# Altium integrated library TI Data Converters Digital to Analog Converter.IntLib: 1533 symbols (part 43 of 99)
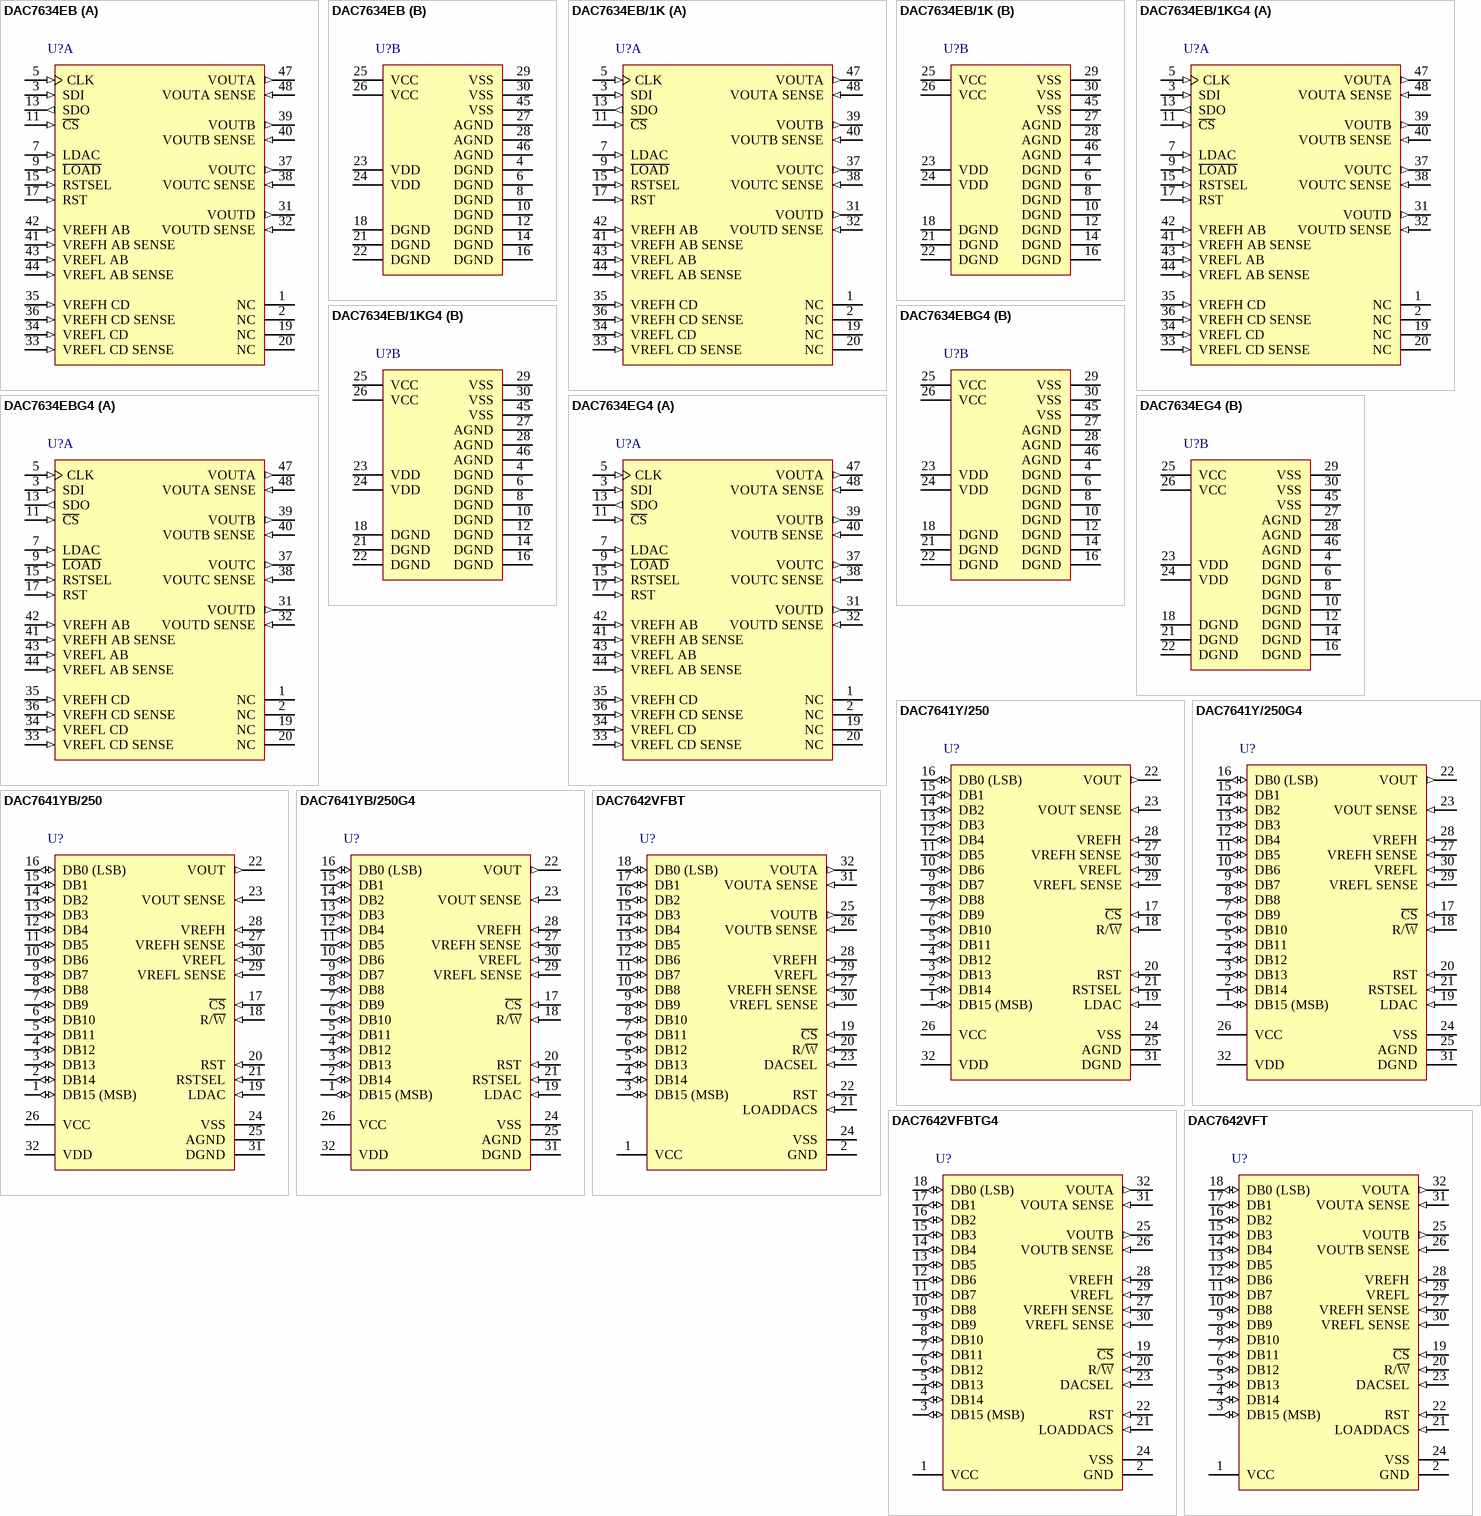
[diagram p115: symbols DAC7634EB to DAC7642VFT]

## DAC7634EB/1K
designator U?
16-Bit, Quad Voltage Output DAC, -40 to 85 degC, 48-pin SOP (DL48), Green (RoHS & no Sb/Br); Manufacturer: Texas Instruments; PartNumber: DAC7634EB/1K; DAC Channels: 4; DNL(Max)(+/-LSB): 2; INL(Max)(+/-LSB): 3; Interface: Serial SPI; Power Consumption(Typ)(mW): 15; Resolution(Bits): 16; Settling Time(us): 10; SubFamily: Precision DAC (=<10MSPS); DatasheetVersion: SBAS134B; PackageVersion: 4040048/E, 12/2001; PackageReference: DL48; PackageDescription: 48-Pin Plastic Small Outline, Body 7.49 x 15.88 mm, Pitch 0.635 mm; Supplier 1: Digi-Key; Supplier Part Number 1: DAC7634EB/1K-ND; Supplier 2: Newark; Supplier Part Number 2: 74C9222; Supplier 3: Mouser; Supplier Part Number 3: 595-DAC7634EB/1K; Eco-Plan: Green (RoHS & no Sb/Br); Mounting Technology: Surface Mount; Code_JEDEC: MO-118; ComponentLink1Description: Manufacturer URL; ComponentLink1URL: http://www.ti.com/; ComponentLink2Description: Datasheet; ComponentLink2URL: http://www.ti.com/general/docs/lit/getliterature.tsp?genericPartNumber=DAC7634&fileType=pdf; ComponentLink3Description: Package Specification; ComponentLink3URL: http://www.ti.com/lit/ml/msso001c/msso001c.pdf
footprint TI-DL48_N (SOP, 48-Leads, Body 15.88x7.49mm, Pitch 0.635mm, IPC Medium Density)
footprint TI-DL48_L (SOP, 48-Leads, Body 15.88x7.49mm, Pitch 0.635mm, IPC High Density)
footprint TI-DL48_M (SOP, 48-Leads, Body 15.88x7.49mm, Pitch 0.635mm, IPC Low Density)
part A pins: 1 NC "No connection", 2 NC "No connection", 3 SDI (in) "Serial data input", 5 CLK (in) "Data clock input", 7 LDAC (in) "DAC register load control, rising edge triggered", 9 ~{LOAD} (in) "DAC input register load control, active low", 11 ~{CS} (in) "Chip select, active low", 13 SDO (out) "Serial data output", 15 RSTSEL (in) "Reset Select. Determines the action of RST. If  HIGH, a RST common sets the DAC registers to mid-scale (8000 H). If LOW, a RST command sets the DAC registers to zero (0000H).", 17 RST (in) "Reset, rising edge triggered. Depending on the state of RSTSEL, the DAC registers are set to either mid-scale or zero.", 19 NC "No connection", 20 NC "No connection", 31 VOUTD (out) "DAC D output voltage", 32 VOUTD SENSE (in) "DAC D's output amplifier inverting input. Used to close feedback loop at load.", 33 VREFL CD SENSE (in) "DAC C and D reference low sense input", 34 VREFL CD (in) "DAC C and D reference low input", 35 VREFH CD (in) "DAC C and D reference high input", 36 VREFH CD SENSE (in) "DAC C and D reference high sense input", 37 VOUTC (out) "DAC C output voltage", 38 VOUTC SENSE (in) "DAC C's output amplifier inverting input. Used to close the feedback loop at the load.", 39 VOUTB (out) "DAC B output voltage", 40 VOUTB SENSE (in) "DAC B's output amplifier inverting input. Used to close the feedback loop at the load.", 41 VREFH AB SENSE (in) "DAC A and B reference high sense input", 42 VREFH AB (in) "DAC A and B reference high input", 43 VREFL AB (in) "DAC A and B reference low input", 44 VREFL AB SENSE (in) "DAC A and B reference low sense input", 47 VOUTA (out) "DAC A output voltage", 48 VOUTA SENSE (in) "DAC A's output amplifier inverting input. Used to close the feedback loop at the load."
part B pins: 4 DGND (power) "Digital ground", 6 DGND (power) "Digital ground", 8 DGND (power) "Digital ground", 10 DGND (power) "Digital ground", 12 DGND (power) "Digital ground", 14 DGND (power) "Digital ground", 16 DGND (power) "Digital ground", 18 DGND (power) "Digital ground", 21 DGND (power) "Digital ground", 22 DGND (power) "Digital ground", 23 VDD (power) "Digital 5-V power supply", 24 VDD (power) "Digital 5-V power supply", 25 VCC (power) "Analog +5-V power supply", 26 VCC (power) "Analog +5-V power supply", 27 AGND (power) "Analog ground", 28 AGND (power) "Analog ground", 29 VSS (power) "Analog +5V power supply or 0V single supply", 30 VSS (power) "Analog +5V power supply or 0V single supply", 45 VSS (power) "Analog -5V power supply or 0V single supply", 46 AGND (power) "Analog ground"

## DAC7634EB/1KG4
designator U?
16-Bit, Quad Voltage Output DAC, -40 to 85 degC, 48-pin SOP (DL48), Green (RoHS & no Sb/Br); Manufacturer: Texas Instruments; PartNumber: DAC7634EB/1KG4; DAC Channels: 4; DNL(Max)(+/-LSB): 2; INL(Max)(+/-LSB): 3; Interface: Serial SPI; Power Consumption(Typ)(mW): 15; Resolution(Bits): 16; Settling Time(us): 10; SubFamily: Precision DAC (=<10MSPS); DatasheetVersion: SBAS134B; PackageVersion: 4040048/E, 12/2001; PackageReference: DL48; PackageDescription: 48-Pin Plastic Small Outline, Body 7.49 x 15.88 mm, Pitch 0.635 mm; Supplier 1: Digi-Key; Supplier Part Number 1: DAC7634EB/1KG4-ND; Supplier 2: Mouser; Supplier Part Number 2: 595-DAC7634EB/1KG4; Eco-Plan: Green (RoHS & no Sb/Br); Mounting Technology: Surface Mount; Code_JEDEC: MO-118; ComponentLink1Description: Manufacturer URL; ComponentLink1URL: http://www.ti.com/; ComponentLink2Description: Datasheet; ComponentLink2URL: http://www.ti.com/general/docs/lit/getliterature.tsp?genericPartNumber=DAC7634&fileType=pdf; ComponentLink3Description: Package Specification; ComponentLink3URL: http://www.ti.com/lit/ml/msso001c/msso001c.pdf
footprint TI-DL48_N (SOP, 48-Leads, Body 15.88x7.49mm, Pitch 0.635mm, IPC Medium Density)
footprint TI-DL48_L (SOP, 48-Leads, Body 15.88x7.49mm, Pitch 0.635mm, IPC High Density)
footprint TI-DL48_M (SOP, 48-Leads, Body 15.88x7.49mm, Pitch 0.635mm, IPC Low Density)
part A pins: 1 NC "No connection", 2 NC "No connection", 3 SDI (in) "Serial data input", 5 CLK (in) "Data clock input", 7 LDAC (in) "DAC register load control, rising edge triggered", 9 ~{LOAD} (in) "DAC input register load control, active low", 11 ~{CS} (in) "Chip select, active low", 13 SDO (out) "Serial data output", 15 RSTSEL (in) "Reset Select. Determines the action of RST. If  HIGH, a RST common sets the DAC registers to mid-scale (8000 H). If LOW, a RST command sets the DAC registers to zero (0000H).", 17 RST (in) "Reset, rising edge triggered. Depending on the state of RSTSEL, the DAC registers are set to either mid-scale or zero.", 19 NC "No connection", 20 NC "No connection", 31 VOUTD (out) "DAC D output voltage", 32 VOUTD SENSE (in) "DAC D's output amplifier inverting input. Used to close feedback loop at load.", 33 VREFL CD SENSE (in) "DAC C and D reference low sense input", 34 VREFL CD (in) "DAC C and D reference low input", 35 VREFH CD (in) "DAC C and D reference high input", 36 VREFH CD SENSE (in) "DAC C and D reference high sense input", 37 VOUTC (out) "DAC C output voltage", 38 VOUTC SENSE (in) "DAC C's output amplifier inverting input. Used to close the feedback loop at the load.", 39 VOUTB (out) "DAC B output voltage", 40 VOUTB SENSE (in) "DAC B's output amplifier inverting input. Used to close the feedback loop at the load.", 41 VREFH AB SENSE (in) "DAC A and B reference high sense input", 42 VREFH AB (in) "DAC A and B reference high input", 43 VREFL AB (in) "DAC A and B reference low input", 44 VREFL AB SENSE (in) "DAC A and B reference low sense input", 47 VOUTA (out) "DAC A output voltage", 48 VOUTA SENSE (in) "DAC A's output amplifier inverting input. Used to close the feedback loop at the load."
part B pins: 4 DGND (power) "Digital ground", 6 DGND (power) "Digital ground", 8 DGND (power) "Digital ground", 10 DGND (power) "Digital ground", 12 DGND (power) "Digital ground", 14 DGND (power) "Digital ground", 16 DGND (power) "Digital ground", 18 DGND (power) "Digital ground", 21 DGND (power) "Digital ground", 22 DGND (power) "Digital ground", 23 VDD (power) "Digital 5-V power supply", 24 VDD (power) "Digital 5-V power supply", 25 VCC (power) "Analog +5-V power supply", 26 VCC (power) "Analog +5-V power supply", 27 AGND (power) "Analog ground", 28 AGND (power) "Analog ground", 29 VSS (power) "Analog +5V power supply or 0V single supply", 30 VSS (power) "Analog +5V power supply or 0V single supply", 45 VSS (power) "Analog -5V power supply or 0V single supply", 46 AGND (power) "Analog ground"

## DAC7634EBG4
designator U?
16-Bit, Quad Voltage Output DAC, -40 to 85 degC, 48-pin SOP (DL48), Green (RoHS & no Sb/Br); Manufacturer: Texas Instruments; PartNumber: DAC7634EBG4; DAC Channels: 4; DNL(Max)(+/-LSB): 2; INL(Max)(+/-LSB): 3; Interface: Serial SPI; Power Consumption(Typ)(mW): 15; Resolution(Bits): 16; Settling Time(us): 10; SubFamily: Precision DAC (=<10MSPS); DatasheetVersion: SBAS134B; PackageVersion: 4040048/E, 12/2001; PackageReference: DL48; PackageDescription: 48-Pin Plastic Small Outline, Body 7.49 x 15.88 mm, Pitch 0.635 mm; Supplier 1: Digi-Key; Supplier Part Number 1: DAC7634EBG4-ND; Supplier 2: Mouser; Supplier Part Number 2: 595-DAC7634EBG4; Eco-Plan: Green (RoHS & no Sb/Br); Mounting Technology: Surface Mount; Code_JEDEC: MO-118; ComponentLink1Description: Manufacturer URL; ComponentLink1URL: http://www.ti.com/; ComponentLink2Description: Datasheet; ComponentLink2URL: http://www.ti.com/general/docs/lit/getliterature.tsp?genericPartNumber=DAC7634&fileType=pdf; ComponentLink3Description: Package Specification; ComponentLink3URL: http://www.ti.com/lit/ml/msso001c/msso001c.pdf
footprint TI-DL48_N (SOP, 48-Leads, Body 15.88x7.49mm, Pitch 0.635mm, IPC Medium Density)
footprint TI-DL48_L (SOP, 48-Leads, Body 15.88x7.49mm, Pitch 0.635mm, IPC High Density)
footprint TI-DL48_M (SOP, 48-Leads, Body 15.88x7.49mm, Pitch 0.635mm, IPC Low Density)
part A pins: 1 NC "No connection", 2 NC "No connection", 3 SDI (in) "Serial data input", 5 CLK (in) "Data clock input", 7 LDAC (in) "DAC register load control, rising edge triggered", 9 ~{LOAD} (in) "DAC input register load control, active low", 11 ~{CS} (in) "Chip select, active low", 13 SDO (out) "Serial data output", 15 RSTSEL (in) "Reset Select. Determines the action of RST. If  HIGH, a RST common sets the DAC registers to mid-scale (8000 H). If LOW, a RST command sets the DAC registers to zero (0000H).", 17 RST (in) "Reset, rising edge triggered. Depending on the state of RSTSEL, the DAC registers are set to either mid-scale or zero.", 19 NC "No connection", 20 NC "No connection", 31 VOUTD (out) "DAC D output voltage", 32 VOUTD SENSE (in) "DAC D's output amplifier inverting input. Used to close feedback loop at load.", 33 VREFL CD SENSE (in) "DAC C and D reference low sense input", 34 VREFL CD (in) "DAC C and D reference low input", 35 VREFH CD (in) "DAC C and D reference high input", 36 VREFH CD SENSE (in) "DAC C and D reference high sense input", 37 VOUTC (out) "DAC C output voltage", 38 VOUTC SENSE (in) "DAC C's output amplifier inverting input. Used to close the feedback loop at the load.", 39 VOUTB (out) "DAC B output voltage", 40 VOUTB SENSE (in) "DAC B's output amplifier inverting input. Used to close the feedback loop at the load.", 41 VREFH AB SENSE (in) "DAC A and B reference high sense input", 42 VREFH AB (in) "DAC A and B reference high input", 43 VREFL AB (in) "DAC A and B reference low input", 44 VREFL AB SENSE (in) "DAC A and B reference low sense input", 47 VOUTA (out) "DAC A output voltage", 48 VOUTA SENSE (in) "DAC A's output amplifier inverting input. Used to close the feedback loop at the load."
part B pins: 4 DGND (power) "Digital ground", 6 DGND (power) "Digital ground", 8 DGND (power) "Digital ground", 10 DGND (power) "Digital ground", 12 DGND (power) "Digital ground", 14 DGND (power) "Digital ground", 16 DGND (power) "Digital ground", 18 DGND (power) "Digital ground", 21 DGND (power) "Digital ground", 22 DGND (power) "Digital ground", 23 VDD (power) "Digital 5-V power supply", 24 VDD (power) "Digital 5-V power supply", 25 VCC (power) "Analog +5-V power supply", 26 VCC (power) "Analog +5-V power supply", 27 AGND (power) "Analog ground", 28 AGND (power) "Analog ground", 29 VSS (power) "Analog +5V power supply or 0V single supply", 30 VSS (power) "Analog +5V power supply or 0V single supply", 45 VSS (power) "Analog -5V power supply or 0V single supply", 46 AGND (power) "Analog ground"

## DAC7634EG4
designator U?
16-Bit, Quad Voltage Output DAC, -40 to 85 degC, 48-pin SOP (DL48), Green (RoHS & no Sb/Br); Manufacturer: Texas Instruments; PartNumber: DAC7634EG4; DAC Channels: 4; DNL(Max)(+/-LSB): 3; Interface: Serial SPI; Power Consumption(Typ)(mW): 15; Resolution(Bits): 16; Settling Time(us): 10; SubFamily: Precision DAC (=<10MSPS); DatasheetVersion: SBAS134B; PackageVersion: 4040048/E, 12/2001; PackageReference: DL48; PackageDescription: 48-Pin Plastic Small Outline, Body 7.49 x 15.88 mm, Pitch 0.635 mm; Supplier 1: Digi-Key; Supplier Part Number 1: DAC7634EG4-ND; Supplier 2: Mouser; Supplier Part Number 2: 595-DAC7634EG4; Eco-Plan: Green (RoHS & no Sb/Br); INL(Max)(+/-LSB): 4; Mounting Technology: Surface Mount; Code_JEDEC: MO-118; ComponentLink1Description: Manufacturer URL; ComponentLink1URL: http://www.ti.com/; ComponentLink2Description: Datasheet; ComponentLink2URL: http://www.ti.com/general/docs/lit/getliterature.tsp?genericPartNumber=DAC7634&fileType=pdf; ComponentLink3Description: Package Specification; ComponentLink3URL: http://www.ti.com/lit/ml/msso001c/msso001c.pdf
footprint TI-DL48_N (SOP, 48-Leads, Body 15.88x7.49mm, Pitch 0.635mm, IPC Medium Density)
footprint TI-DL48_L (SOP, 48-Leads, Body 15.88x7.49mm, Pitch 0.635mm, IPC High Density)
footprint TI-DL48_M (SOP, 48-Leads, Body 15.88x7.49mm, Pitch 0.635mm, IPC Low Density)
part A pins: 1 NC "No connection", 2 NC "No connection", 3 SDI (in) "Serial data input", 5 CLK (in) "Data clock input", 7 LDAC (in) "DAC register load control, rising edge triggered", 9 ~{LOAD} (in) "DAC input register load control, active low", 11 ~{CS} (in) "Chip select, active low", 13 SDO (out) "Serial data output", 15 RSTSEL (in) "Reset Select. Determines the action of RST. If  HIGH, a RST common sets the DAC registers to mid-scale (8000 H). If LOW, a RST command sets the DAC registers to zero (0000H).", 17 RST (in) "Reset, rising edge triggered. Depending on the state of RSTSEL, the DAC registers are set to either mid-scale or zero.", 19 NC "No connection", 20 NC "No connection", 31 VOUTD (out) "DAC D output voltage", 32 VOUTD SENSE (in) "DAC D's output amplifier inverting input. Used to close feedback loop at load.", 33 VREFL CD SENSE (in) "DAC C and D reference low sense input", 34 VREFL CD (in) "DAC C and D reference low input", 35 VREFH CD (in) "DAC C and D reference high input", 36 VREFH CD SENSE (in) "DAC C and D reference high sense input", 37 VOUTC (out) "DAC C output voltage", 38 VOUTC SENSE (in) "DAC C's output amplifier inverting input. Used to close the feedback loop at the load.", 39 VOUTB (out) "DAC B output voltage", 40 VOUTB SENSE (in) "DAC B's output amplifier inverting input. Used to close the feedback loop at the load.", 41 VREFH AB SENSE (in) "DAC A and B reference high sense input", 42 VREFH AB (in) "DAC A and B reference high input", 43 VREFL AB (in) "DAC A and B reference low input", 44 VREFL AB SENSE (in) "DAC A and B reference low sense input", 47 VOUTA (out) "DAC A output voltage", 48 VOUTA SENSE (in) "DAC A's output amplifier inverting input. Used to close the feedback loop at the load."
part B pins: 4 DGND (power) "Digital ground", 6 DGND (power) "Digital ground", 8 DGND (power) "Digital ground", 10 DGND (power) "Digital ground", 12 DGND (power) "Digital ground", 14 DGND (power) "Digital ground", 16 DGND (power) "Digital ground", 18 DGND (power) "Digital ground", 21 DGND (power) "Digital ground", 22 DGND (power) "Digital ground", 23 VDD (power) "Digital 5-V power supply", 24 VDD (power) "Digital 5-V power supply", 25 VCC (power) "Analog +5-V power supply", 26 VCC (power) "Analog +5-V power supply", 27 AGND (power) "Analog ground", 28 AGND (power) "Analog ground", 29 VSS (power) "Analog +5V power supply or 0V single supply", 30 VSS (power) "Analog +5V power supply or 0V single supply", 45 VSS (power) "Analog -5V power supply or 0V single supply", 46 AGND (power) "Analog ground"

## DAC7641Y/250
designator U?
16-Bit, Voltage Output DAC, -40 to 85 degC, 32-pin QFP (PBS32), Green (RoHS & no Sb/Br); Manufacturer: Texas Instruments; PartNumber: DAC7641Y/250; DAC Channels: 1; DNL(Max)(+/-LSB): 3; INL(Max)(+/-LSB): 4; Interface: Parallel; Power Consumption(Typ)(mW): 1.8; Resolution(Bits): 16; Settling Time(us): 10; SubFamily: Precision DAC (=<10MSPS); DatasheetVersion: SBAS118; PackageVersion: 4087735/B, 07/2005; PackageReference: PBS32; PackageDescription: 32-Pin Plastic Flat Pack, Body 5 X 5 mm, Pitch 0.5 mm; Supplier 1: Digi-Key; Supplier Part Number 1: DAC7641YTR-ND; Supplier 2: Digi-Key; Supplier Part Number 2: DAC7641YCT-ND; Supplier 3: Digi-Key; Supplier Part Number 3: DAC7641YDKR-ND; Supplier 4: Mouser; Supplier Part Number 4: 595-DAC7641Y/250; Eco-Plan: Green (RoHS & no Sb/Br); Mounting Technology: Surface Mount; Code_JEDEC: MS-026; ComponentLink1Description: Manufacturer URL; ComponentLink1URL: http://www.ti.com/; ComponentLink2Description: Datasheet; ComponentLink2URL: http://www.ti.com/general/docs/lit/getliterature.tsp?genericPartNumber=DAC7641&fileType=pdf; ComponentLink3Description: Package Specification; ComponentLink3URL: http://www.ti.com/lit/ml/mpqf027a/mpqf027a.pdf
footprint TI-PBS32_N (QFP, 32-Leads, Body 5x5mm, Pitch 0.5mm, IPC Medium Density)
footprint TI-PBS32_L (QFP, 32-Leads, Body 5x5mm, Pitch 0.5mm, IPC High Density)
footprint TI-PBS32_M (QFP, 32-Leads, Body 5x5mm, Pitch 0.5mm, IPC Low Density)
pins: 1 DB15 (MSB) (io) "Data Bit 15, MSB", 2 DB14 (io) "Data Bit 14", 3 DB13 (io) "Data Bit 13", 4 DB12 (io) "Data Bit 12", 5 DB11 (io) "Data Bit 11", 6 DB10 (io) "Data Bit 10", 7 DB9 (io) "Data Bit 9", 8 DB8 (io) "Data Bit 8", 9 DB7 (io) "Data Bit 7", 10 DB6 (io) "Data Bit 6", 11 DB5 (io) "Data Bit 5", 12 DB4 (io) "Data Bit 4", 13 DB3 (io) "Data Bit 3", 14 DB2 (io) "Data Bit 2", 15 DB1 (io) "Data Bit 1", 16 DB0 (LSB) (io) "Data Bit 0, LSB", 17 ~{CS} (in) "Chip Select, active low", 18 R/~{W} (in) "Enabled by C\S\, controls data read and write from the input register.", 19 LDAC (in) "DAC Load Strobe, rising-edge triggered.", 20 RST (in) "Reset, rising-edge triggered. Depending on the state of RSTSEL, the DAC registers are set to either midscale or zero.", 21 RSTSEL (in) "Reset Select. Determines the action of RST. If HIGH, a RST command will set the DAC registers to mid-scale. If LOW, a RST command will set the DAC registers to zero.", 22 VOUT (out) "DAC Voltage Output", 23 VOUT SENSE (in) "DAC Output Amplifier Inverting Input. Used to close the feedback loop at the load.", 24 VSS (power) "Negative Power Supply", 25 AGND (power) "Analog Ground", 26 VCC (power) "Positive Power Supply", 27 VREFH SENSE (in) "DAC Reference High Sense Input", 28 VREFH (in) "DAC Reference High Input", 29 VREFL SENSE (in) "DAC Reference Low Sense Input", 30 VREFL (in) "DAC Reference Low Input", 31 DGND (power) "Digital Ground", 32 VDD (power) "Positive Power Supply"

## DAC7641Y/250G4
designator U?
16-Bit, Voltage Output DAC, -40 to 85 degC, 32-pin QFP (PBS32), Green (RoHS & no Sb/Br); Manufacturer: Texas Instruments; PartNumber: DAC7641Y/250G4; DAC Channels: 1; DNL(Max)(+/-LSB): 3; INL(Max)(+/-LSB): 4; Interface: Parallel; Power Consumption(Typ)(mW): 1.8; Resolution(Bits): 16; Settling Time(us): 10; SubFamily: Precision DAC (=<10MSPS); DatasheetVersion: SBAS118; PackageVersion: 4087735/B, 07/2005; PackageReference: PBS32; PackageDescription: 32-Pin Plastic Flat Pack, Body 5 X 5 mm, Pitch 0.5 mm; Supplier 1: Digi-Key; Supplier Part Number 1: DAC7641Y/250G4-ND; Supplier 2: Mouser; Supplier Part Number 2: 595-DAC7641Y/250G4; Eco-Plan: Green (RoHS & no Sb/Br); Mounting Technology: Surface Mount; Code_JEDEC: MS-026; ComponentLink1Description: Manufacturer URL; ComponentLink1URL: http://www.ti.com/; ComponentLink2Description: Datasheet; ComponentLink2URL: http://www.ti.com/general/docs/lit/getliterature.tsp?genericPartNumber=DAC7641&fileType=pdf; ComponentLink3Description: Package Specification; ComponentLink3URL: http://www.ti.com/lit/ml/mpqf027a/mpqf027a.pdf
footprint TI-PBS32_N (QFP, 32-Leads, Body 5x5mm, Pitch 0.5mm, IPC Medium Density)
footprint TI-PBS32_L (QFP, 32-Leads, Body 5x5mm, Pitch 0.5mm, IPC High Density)
footprint TI-PBS32_M (QFP, 32-Leads, Body 5x5mm, Pitch 0.5mm, IPC Low Density)
pins: 1 DB15 (MSB) (io) "Data Bit 15, MSB", 2 DB14 (io) "Data Bit 14", 3 DB13 (io) "Data Bit 13", 4 DB12 (io) "Data Bit 12", 5 DB11 (io) "Data Bit 11", 6 DB10 (io) "Data Bit 10", 7 DB9 (io) "Data Bit 9", 8 DB8 (io) "Data Bit 8", 9 DB7 (io) "Data Bit 7", 10 DB6 (io) "Data Bit 6", 11 DB5 (io) "Data Bit 5", 12 DB4 (io) "Data Bit 4", 13 DB3 (io) "Data Bit 3", 14 DB2 (io) "Data Bit 2", 15 DB1 (io) "Data Bit 1", 16 DB0 (LSB) (io) "Data Bit 0, LSB", 17 ~{CS} (in) "Chip Select, active low", 18 R/~{W} (in) "Enabled by C\S\, controls data read and write from the input register.", 19 LDAC (in) "DAC Load Strobe, rising-edge triggered.", 20 RST (in) "Reset, rising-edge triggered. Depending on the state of RSTSEL, the DAC registers are set to either midscale or zero.", 21 RSTSEL (in) "Reset Select. Determines the action of RST. If HIGH, a RST command will set the DAC registers to mid-scale. If LOW, a RST command will set the DAC registers to zero.", 22 VOUT (out) "DAC Voltage Output", 23 VOUT SENSE (in) "DAC Output Amplifier Inverting Input. Used to close the feedback loop at the load.", 24 VSS (power) "Negative Power Supply", 25 AGND (power) "Analog Ground", 26 VCC (power) "Positive Power Supply", 27 VREFH SENSE (in) "DAC Reference High Sense Input", 28 VREFH (in) "DAC Reference High Input", 29 VREFL SENSE (in) "DAC Reference Low Sense Input", 30 VREFL (in) "DAC Reference Low Input", 31 DGND (power) "Digital Ground", 32 VDD (power) "Positive Power Supply"

## DAC7641YB/250
designator U?
16-Bit, Voltage Output DAC, -40 to 85 degC, 32-pin QFP (PBS32), Green (RoHS & no Sb/Br); Manufacturer: Texas Instruments; PartNumber: DAC7641YB/250; DAC Channels: 1; DNL(Max)(+/-LSB): 2; INL(Max)(+/-LSB): 3; Interface: Parallel; Power Consumption(Typ)(mW): 1.8; Resolution(Bits): 16; Settling Time(us): 10; SubFamily: Precision DAC (=<10MSPS); DatasheetVersion: SBAS118; PackageVersion: 4087735/B, 07/2005; PackageReference: PBS32; PackageDescription: 32-Pin Plastic Flat Pack, Body 5 X 5 mm, Pitch 0.5 mm; Supplier 1: Digi-Key; Supplier Part Number 1: DAC7641YBTR-ND; Supplier 2: Digi-Key; Supplier Part Number 2: DAC7641YBCT-ND; Supplier 3: Digi-Key; Supplier Part Number 3: DAC7641YBDKR-ND; Supplier 4: Mouser; Supplier Part Number 4: 595-DAC7641YB/250; Eco-Plan: Green (RoHS & no Sb/Br); Mounting Technology: Surface Mount; Code_JEDEC: MS-026; ComponentLink1Description: Manufacturer URL; ComponentLink1URL: http://www.ti.com/; ComponentLink2Description: Datasheet; ComponentLink2URL: http://www.ti.com/general/docs/lit/getliterature.tsp?genericPartNumber=DAC7641&fileType=pdf; ComponentLink3Description: Package Specification; ComponentLink3URL: http://www.ti.com/lit/ml/mpqf027a/mpqf027a.pdf
footprint TI-PBS32_N (QFP, 32-Leads, Body 5x5mm, Pitch 0.5mm, IPC Medium Density)
footprint TI-PBS32_L (QFP, 32-Leads, Body 5x5mm, Pitch 0.5mm, IPC High Density)
footprint TI-PBS32_M (QFP, 32-Leads, Body 5x5mm, Pitch 0.5mm, IPC Low Density)
pins: 1 DB15 (MSB) (io) "Data Bit 15, MSB", 2 DB14 (io) "Data Bit 14", 3 DB13 (io) "Data Bit 13", 4 DB12 (io) "Data Bit 12", 5 DB11 (io) "Data Bit 11", 6 DB10 (io) "Data Bit 10", 7 DB9 (io) "Data Bit 9", 8 DB8 (io) "Data Bit 8", 9 DB7 (io) "Data Bit 7", 10 DB6 (io) "Data Bit 6", 11 DB5 (io) "Data Bit 5", 12 DB4 (io) "Data Bit 4", 13 DB3 (io) "Data Bit 3", 14 DB2 (io) "Data Bit 2", 15 DB1 (io) "Data Bit 1", 16 DB0 (LSB) (io) "Data Bit 0, LSB", 17 ~{CS} (in) "Chip Select, active low", 18 R/~{W} (in) "Enabled by C\S\, controls data read and write from the input register.", 19 LDAC (in) "DAC Load Strobe, rising-edge triggered.", 20 RST (in) "Reset, rising-edge triggered. Depending on the state of RSTSEL, the DAC registers are set to either midscale or zero.", 21 RSTSEL (in) "Reset Select. Determines the action of RST. If HIGH, a RST command will set the DAC registers to mid-scale. If LOW, a RST command will set the DAC registers to zero.", 22 VOUT (out) "DAC Voltage Output", 23 VOUT SENSE (in) "DAC Output Amplifier Inverting Input. Used to close the feedback loop at the load.", 24 VSS (power) "Negative Power Supply", 25 AGND (power) "Analog Ground", 26 VCC (power) "Positive Power Supply", 27 VREFH SENSE (in) "DAC Reference High Sense Input", 28 VREFH (in) "DAC Reference High Input", 29 VREFL SENSE (in) "DAC Reference Low Sense Input", 30 VREFL (in) "DAC Reference Low Input", 31 DGND (power) "Digital Ground", 32 VDD (power) "Positive Power Supply"

## DAC7641YB/250G4
designator U?
16-Bit, Voltage Output DAC, -40 to 85 degC, 32-pin QFP (PBS32), Green (RoHS & no Sb/Br); Manufacturer: Texas Instruments; PartNumber: DAC7641YB/250G4; DAC Channels: 1; DNL(Max)(+/-LSB): 2; INL(Max)(+/-LSB): 3; Interface: Parallel; Power Consumption(Typ)(mW): 1.8; Resolution(Bits): 16; Settling Time(us): 10; SubFamily: Precision DAC (=<10MSPS); DatasheetVersion: SBAS118; PackageVersion: 4087735/B, 07/2005; PackageReference: PBS32; PackageDescription: 32-Pin Plastic Flat Pack, Body 5 X 5 mm, Pitch 0.5 mm; Supplier 1: Digi-Key; Supplier Part Number 1: DAC7641YB/250G4-ND; Supplier 2: Mouser; Supplier Part Number 2: 595-DAC7641YB/250G4; Eco-Plan: Green (RoHS & no Sb/Br); Mounting Technology: Surface Mount; Code_JEDEC: MS-026; ComponentLink1Description: Manufacturer URL; ComponentLink1URL: http://www.ti.com/; ComponentLink2Description: Datasheet; ComponentLink2URL: http://www.ti.com/general/docs/lit/getliterature.tsp?genericPartNumber=DAC7641&fileType=pdf; ComponentLink3Description: Package Specification; ComponentLink3URL: http://www.ti.com/lit/ml/mpqf027a/mpqf027a.pdf
footprint TI-PBS32_N (QFP, 32-Leads, Body 5x5mm, Pitch 0.5mm, IPC Medium Density)
footprint TI-PBS32_L (QFP, 32-Leads, Body 5x5mm, Pitch 0.5mm, IPC High Density)
footprint TI-PBS32_M (QFP, 32-Leads, Body 5x5mm, Pitch 0.5mm, IPC Low Density)
pins: 1 DB15 (MSB) (io) "Data Bit 15, MSB", 2 DB14 (io) "Data Bit 14", 3 DB13 (io) "Data Bit 13", 4 DB12 (io) "Data Bit 12", 5 DB11 (io) "Data Bit 11", 6 DB10 (io) "Data Bit 10", 7 DB9 (io) "Data Bit 9", 8 DB8 (io) "Data Bit 8", 9 DB7 (io) "Data Bit 7", 10 DB6 (io) "Data Bit 6", 11 DB5 (io) "Data Bit 5", 12 DB4 (io) "Data Bit 4", 13 DB3 (io) "Data Bit 3", 14 DB2 (io) "Data Bit 2", 15 DB1 (io) "Data Bit 1", 16 DB0 (LSB) (io) "Data Bit 0, LSB", 17 ~{CS} (in) "Chip Select, active low", 18 R/~{W} (in) "Enabled by C\S\, controls data read and write from the input register.", 19 LDAC (in) "DAC Load Strobe, rising-edge triggered.", 20 RST (in) "Reset, rising-edge triggered. Depending on the state of RSTSEL, the DAC registers are set to either midscale or zero.", 21 RSTSEL (in) "Reset Select. Determines the action of RST. If HIGH, a RST command will set the DAC registers to mid-scale. If LOW, a RST command will set the DAC registers to zero.", 22 VOUT (out) "DAC Voltage Output", 23 VOUT SENSE (in) "DAC Output Amplifier Inverting Input. Used to close the feedback loop at the load.", 24 VSS (power) "Negative Power Supply", 25 AGND (power) "Analog Ground", 26 VCC (power) "Positive Power Supply", 27 VREFH SENSE (in) "DAC Reference High Sense Input", 28 VREFH (in) "DAC Reference High Input", 29 VREFL SENSE (in) "DAC Reference Low Sense Input", 30 VREFL (in) "DAC Reference Low Input", 31 DGND (power) "Digital Ground", 32 VDD (power) "Positive Power Supply"

## DAC7642VFBT
designator U?
16-Bit, Dual Voltage Output DAC with Parallel Interface and Reset to Mid-Scale, -40 to 85 degC, 32-pin QFP (VF32), Green (RoHS & no Sb/Br); Manufacturer: Texas Instruments; PartNumber: DAC7642VFBT; DAC Channels: 2; INL(Max)(+/-LSB): 3; Power Consumption(Typ)(mW): 2.5; Resolution(Bits): 16; Settling Time(us): 10; SubFamily: Precision DAC (=<10MSPS); DatasheetVersion: SBAS233; PackageReference: VF32; PackageDescription: 32-Pin Plastic Quad Flatpack, Body 7 x 7 mm, Pitch 0.8 mm; Supplier 1: Digi-Key; Supplier Part Number 1: DAC7642VFBT-ND; Supplier 2: Mouser; Supplier Part Number 2: 595-DAC7642VFBT; DNL(Max)(+/-LSB): 2; Eco-Plan: Green (RoHS & no Sb/Br); Interface: Parallel; Mounting Technology: Surface Mount; ComponentLink1Description: Manufacturer URL; ComponentLink1URL: http://www.ti.com/; ComponentLink2Description: Datasheet; ComponentLink2URL: http://www.ti.com/general/docs/lit/getliterature.tsp?genericPartNumber=DAC7642&fileType=pdf; ComponentLink3Description: Package Specification; ComponentLink3URL: http://www.ti.com/litv/pdf/mtqf002b
footprint TI-VF32_N (QFP, 32-Leads, Body 7x7mm, Pitch 0.8mm, IPC Medium Density)
footprint TI-VF32_L (QFP, 32-Leads, Body 7x7mm, Pitch 0.8mm, IPC High Density)
footprint TI-VF32_M (QFP, 32-Leads, Body 7x7mm, Pitch 0.8mm, IPC Low Density)
pins: 1 VCC (power) "Positive Power Supply", 2 GND (power) "Ground", 3 DB15 (MSB) (io) "Data Bit 15, MSB", 4 DB14 (io) "Data Bit 14", 5 DB13 (io) "Data Bit 13", 6 DB12 (io) "Data Bit 12", 7 DB11 (io) "Data Bit 11", 8 DB10 (io) "Data Bit 10", 9 DB9 (io) "Data Bit 9", 10 DB8 (io) "Data Bit 8", 11 DB7 (io) "Data Bit 7", 12 DB6 (io) "Data Bit 6", 13 DB5 (io) "Data Bit 5", 14 DB4 (io) "Data Bit 4", 15 DB3 (io) "Data Bit 3", 16 DB2 (io) "Data Bit 2", 17 DB1 (io) "Data Bit 1", 18 DB0 (LSB) (io) "Data Bit 0, LSB", 19 ~{CS} (in) "Chip Select, Active LOW", 20 R/~{W} (in) "Enabled by C\S\, Controls Data Read from and Write to the Input Registers.", 21 LOADDACS (in) "DAC Output Registers Load Control. Rising edge triggered. Transfers Data from the Input Registers to the DAC Registers, Updating the DAC Output.", 22 RST (in) "Reset, Rising Edge Triggered. DAC7642 resets to mid-scale, DAC7643 resets to zero. (Resets Both Input Registers and DAC Registers)", 23 DACSEL (in) "Enabled by C\S\. Selects the individual DAC Input Registers. (LOW Selects Register A, HIGH Selects Register B)", 24 VSS (power) "Negative Power Supply", 25 VOUTB (out) "DAC B Voltage Output", 26 VOUTB SENSE (in) "DAC B Output Amplifier Inverting Input. Used to close the feedback loop at the load.", 27 VREFH SENSE (in) "DAC A and B Reference High Sense Input", 28 VREFH (in) "DAC A and B Reference High Input", 29 VREFL (in) "DAC A and B Reference Low Input", 30 VREFL SENSE (in) "DAC A and B Reference Low Sense Input", 31 VOUTA SENSE (in) "DAC A Output Amplifier Inverting Input. Used to close the feedback loop at the load.", 32 VOUTA (out) "DAC A Output Voltage"

## DAC7642VFBTG4
designator U?
16-Bit, Dual Voltage Output DAC with Parallel Interface and Reset to Mid-Scale, -40 to 85 degC, 32-pin QFP (VF32), Green (RoHS & no Sb/Br); Manufacturer: Texas Instruments; PartNumber: DAC7642VFBTG4; DAC Channels: 2; INL(Max)(+/-LSB): 3; Power Consumption(Typ)(mW): 2.5; Resolution(Bits): 16; Settling Time(us): 10; SubFamily: Precision DAC (=<10MSPS); DatasheetVersion: SBAS233; PackageReference: VF32; PackageDescription: 32-Pin Plastic Quad Flatpack, Body 7 x 7 mm, Pitch 0.8 mm; Supplier 1: Digi-Key; Supplier Part Number 1: DAC7642VFBTG4-ND; Supplier 2: Mouser; Supplier Part Number 2: 595-DAC7642VFBTG4; DNL(Max)(+/-LSB): 2; Eco-Plan: Green (RoHS & no Sb/Br); Interface: Parallel; Mounting Technology: Surface Mount; ComponentLink1Description: Manufacturer URL; ComponentLink1URL: http://www.ti.com/; ComponentLink2Description: Datasheet; ComponentLink2URL: http://www.ti.com/general/docs/lit/getliterature.tsp?genericPartNumber=DAC7642&fileType=pdf; ComponentLink3Description: Package Specification; ComponentLink3URL: http://www.ti.com/litv/pdf/mtqf002b
footprint TI-VF32_N (QFP, 32-Leads, Body 7x7mm, Pitch 0.8mm, IPC Medium Density)
footprint TI-VF32_L (QFP, 32-Leads, Body 7x7mm, Pitch 0.8mm, IPC High Density)
footprint TI-VF32_M (QFP, 32-Leads, Body 7x7mm, Pitch 0.8mm, IPC Low Density)
pins: 1 VCC (power) "Positive Power Supply", 2 GND (power) "Ground", 3 DB15 (MSB) (io) "Data Bit 15, MSB", 4 DB14 (io) "Data Bit 14", 5 DB13 (io) "Data Bit 13", 6 DB12 (io) "Data Bit 12", 7 DB11 (io) "Data Bit 11", 8 DB10 (io) "Data Bit 10", 9 DB9 (io) "Data Bit 9", 10 DB8 (io) "Data Bit 8", 11 DB7 (io) "Data Bit 7", 12 DB6 (io) "Data Bit 6", 13 DB5 (io) "Data Bit 5", 14 DB4 (io) "Data Bit 4", 15 DB3 (io) "Data Bit 3", 16 DB2 (io) "Data Bit 2", 17 DB1 (io) "Data Bit 1", 18 DB0 (LSB) (io) "Data Bit 0, LSB", 19 ~{CS} (in) "Chip Select, Active LOW", 20 R/~{W} (in) "Enabled by C\S\, Controls Data Read from and Write to the Input Registers.", 21 LOADDACS (in) "DAC Output Registers Load Control. Rising edge triggered. Transfers Data from the Input Registers to the DAC Registers, Updating the DAC Output.", 22 RST (in) "Reset, Rising Edge Triggered. DAC7642 resets to mid-scale, DAC7643 resets to zero. (Resets Both Input Registers and DAC Registers)", 23 DACSEL (in) "Enabled by C\S\. Selects the individual DAC Input Registers. (LOW Selects Register A, HIGH Selects Register B)", 24 VSS (power) "Negative Power Supply", 25 VOUTB (out) "DAC B Voltage Output", 26 VOUTB SENSE (in) "DAC B Output Amplifier Inverting Input. Used to close the feedback loop at the load.", 27 VREFH SENSE (in) "DAC A and B Reference High Sense Input", 28 VREFH (in) "DAC A and B Reference High Input", 29 VREFL (in) "DAC A and B Reference Low Input", 30 VREFL SENSE (in) "DAC A and B Reference Low Sense Input", 31 VOUTA SENSE (in) "DAC A Output Amplifier Inverting Input. Used to close the feedback loop at the load.", 32 VOUTA (out) "DAC A Output Voltage"

## DAC7642VFT
designator U?
16-Bit, Dual Voltage Output DAC with Parallel Interface and Reset to Mid-Scale, -40 to 85 degC, 32-pin QFP (VF32), Green (RoHS & no Sb/Br); Manufacturer: Texas Instruments; PartNumber: DAC7642VFT; DAC Channels: 2; DNL(Max)(+/-LSB): 3; INL(Max)(+/-LSB): 4; Power Consumption(Typ)(mW): 2.5; Resolution(Bits): 16; Settling Time(us): 10; SubFamily: Precision DAC (=<10MSPS); DatasheetVersion: SBAS233; PackageReference: VF32; PackageDescription: 32-Pin Plastic Quad Flatpack, Body 7 x 7 mm, Pitch 0.8 mm; Supplier 1: Digi-Key; Supplier Part Number 1: DAC7642VFTTR-ND; Supplier 2: Digi-Key; Supplier Part Number 2: DAC7642VFTCT-ND; Supplier 3: Farnell; Supplier Part Number 3: 1460222; Supplier 4: Mouser; Supplier Part Number 4: 595-DAC7642VFT; Eco-Plan: Green (RoHS & no Sb/Br); Interface: Parallel; Mounting Technology: Surface Mount; ComponentLink1Description: Manufacturer URL; ComponentLink1URL: http://www.ti.com/; ComponentLink2Description: Datasheet; ComponentLink2URL: http://www.ti.com/general/docs/lit/getliterature.tsp?genericPartNumber=DAC7642&fileType=pdf; ComponentLink3Description: Package Specification; ComponentLink3URL: http://www.ti.com/litv/pdf/mtqf002b
footprint TI-VF32_N (QFP, 32-Leads, Body 7x7mm, Pitch 0.8mm, IPC Medium Density)
footprint TI-VF32_L (QFP, 32-Leads, Body 7x7mm, Pitch 0.8mm, IPC High Density)
footprint TI-VF32_M (QFP, 32-Leads, Body 7x7mm, Pitch 0.8mm, IPC Low Density)
pins: 1 VCC (power) "Positive Power Supply", 2 GND (power) "Ground", 3 DB15 (MSB) (io) "Data Bit 15, MSB", 4 DB14 (io) "Data Bit 14", 5 DB13 (io) "Data Bit 13", 6 DB12 (io) "Data Bit 12", 7 DB11 (io) "Data Bit 11", 8 DB10 (io) "Data Bit 10", 9 DB9 (io) "Data Bit 9", 10 DB8 (io) "Data Bit 8", 11 DB7 (io) "Data Bit 7", 12 DB6 (io) "Data Bit 6", 13 DB5 (io) "Data Bit 5", 14 DB4 (io) "Data Bit 4", 15 DB3 (io) "Data Bit 3", 16 DB2 (io) "Data Bit 2", 17 DB1 (io) "Data Bit 1", 18 DB0 (LSB) (io) "Data Bit 0, LSB", 19 ~{CS} (in) "Chip Select, Active LOW", 20 R/~{W} (in) "Enabled by C\S\, Controls Data Read from and Write to the Input Registers.", 21 LOADDACS (in) "DAC Output Registers Load Control. Rising edge triggered. Transfers Data from the Input Registers to the DAC Registers, Updating the DAC Output.", 22 RST (in) "Reset, Rising Edge Triggered. DAC7642 resets to mid-scale, DAC7643 resets to zero. (Resets Both Input Registers and DAC Registers)", 23 DACSEL (in) "Enabled by C\S\. Selects the individual DAC Input Registers. (LOW Selects Register A, HIGH Selects Register B)", 24 VSS (power) "Negative Power Supply", 25 VOUTB (out) "DAC B Voltage Output", 26 VOUTB SENSE (in) "DAC B Output Amplifier Inverting Input. Used to close the feedback loop at the load.", 27 VREFH SENSE (in) "DAC A and B Reference High Sense Input", 28 VREFH (in) "DAC A and B Reference High Input", 29 VREFL (in) "DAC A and B Reference Low Input", 30 VREFL SENSE (in) "DAC A and B Reference Low Sense Input", 31 VOUTA SENSE (in) "DAC A Output Amplifier Inverting Input. Used to close the feedback loop at the load.", 32 VOUTA (out) "DAC A Output Voltage"

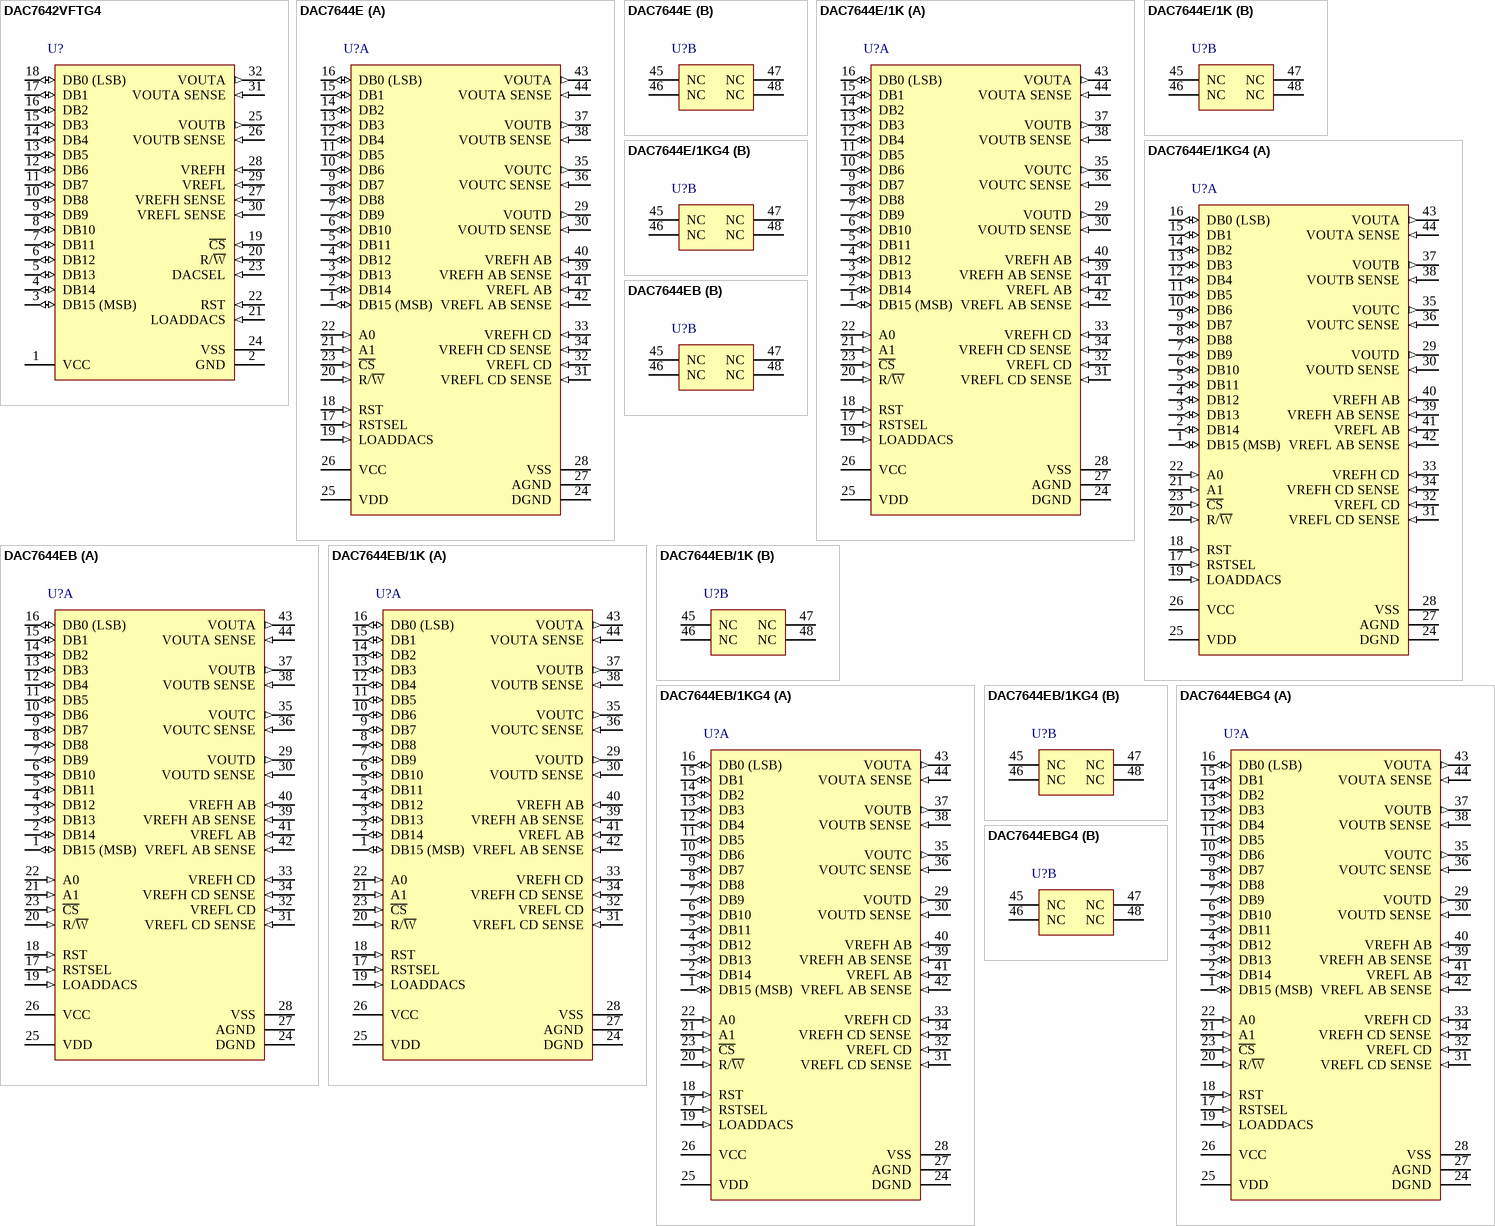
[diagram p32: symbols DAC7642VFTG4 to DAC7644EBG4]

## DAC7642VFTG4
designator U?
16-Bit, Dual Voltage Output DAC with Parallel Interface and Reset to Mid-Scale, -40 to 85 degC, 32-pin QFP (VF32), Green (RoHS & no Sb/Br); Manufacturer: Texas Instruments; PartNumber: DAC7642VFTG4; DAC Channels: 2; DNL(Max)(+/-LSB): 3; INL(Max)(+/-LSB): 4; Power Consumption(Typ)(mW): 2.5; Resolution(Bits): 16; Settling Time(us): 10; SubFamily: Precision DAC (=<10MSPS); DatasheetVersion: SBAS233; PackageReference: VF32; PackageDescription: 32-Pin Plastic Quad Flatpack, Body 7 x 7 mm, Pitch 0.8 mm; Supplier 1: Digi-Key; Supplier Part Number 1: DAC7642VFTG4-ND; Supplier 2: Mouser; Supplier Part Number 2: 595-DAC7642VFTG4; Eco-Plan: Green (RoHS & no Sb/Br); Interface: Parallel; Mounting Technology: Surface Mount; ComponentLink1Description: Manufacturer URL; ComponentLink1URL: http://www.ti.com/; ComponentLink2Description: Datasheet; ComponentLink2URL: http://www.ti.com/general/docs/lit/getliterature.tsp?genericPartNumber=DAC7642&fileType=pdf; ComponentLink3Description: Package Specification; ComponentLink3URL: http://www.ti.com/litv/pdf/mtqf002b
footprint TI-VF32_N (QFP, 32-Leads, Body 7x7mm, Pitch 0.8mm, IPC Medium Density)
footprint TI-VF32_L (QFP, 32-Leads, Body 7x7mm, Pitch 0.8mm, IPC High Density)
footprint TI-VF32_M (QFP, 32-Leads, Body 7x7mm, Pitch 0.8mm, IPC Low Density)
pins: 1 VCC (power) "Positive Power Supply", 2 GND (power) "Ground", 3 DB15 (MSB) (io) "Data Bit 15, MSB", 4 DB14 (io) "Data Bit 14", 5 DB13 (io) "Data Bit 13", 6 DB12 (io) "Data Bit 12", 7 DB11 (io) "Data Bit 11", 8 DB10 (io) "Data Bit 10", 9 DB9 (io) "Data Bit 9", 10 DB8 (io) "Data Bit 8", 11 DB7 (io) "Data Bit 7", 12 DB6 (io) "Data Bit 6", 13 DB5 (io) "Data Bit 5", 14 DB4 (io) "Data Bit 4", 15 DB3 (io) "Data Bit 3", 16 DB2 (io) "Data Bit 2", 17 DB1 (io) "Data Bit 1", 18 DB0 (LSB) (io) "Data Bit 0, LSB", 19 ~{CS} (in) "Chip Select, Active LOW", 20 R/~{W} (in) "Enabled by C\S\, Controls Data Read from and Write to the Input Registers.", 21 LOADDACS (in) "DAC Output Registers Load Control. Rising edge triggered. Transfers Data from the Input Registers to the DAC Registers, Updating the DAC Output.", 22 RST (in) "Reset, Rising Edge Triggered. DAC7642 resets to mid-scale, DAC7643 resets to zero. (Resets Both Input Registers and DAC Registers)", 23 DACSEL (in) "Enabled by C\S\. Selects the individual DAC Input Registers. (LOW Selects Register A, HIGH Selects Register B)", 24 VSS (power) "Negative Power Supply", 25 VOUTB (out) "DAC B Voltage Output", 26 VOUTB SENSE (in) "DAC B Output Amplifier Inverting Input. Used to close the feedback loop at the load.", 27 VREFH SENSE (in) "DAC A and B Reference High Sense Input", 28 VREFH (in) "DAC A and B Reference High Input", 29 VREFL (in) "DAC A and B Reference Low Input", 30 VREFL SENSE (in) "DAC A and B Reference Low Sense Input", 31 VOUTA SENSE (in) "DAC A Output Amplifier Inverting Input. Used to close the feedback loop at the load.", 32 VOUTA (out) "DAC A Output Voltage"

## DAC7644E
designator U?
16-Bit, Quad Voltage Output DAC, -40 to 85 degC, 48-pin SOP (DL48), Green (RoHS & no Sb/Br); Manufacturer: Texas Instruments; PartNumber: DAC7644E; DAC Channels: 4; DNL(Max)(+/-LSB): 3; Interface: Parallel; Resolution(Bits): 16; Settling Time(us): 10; SubFamily: Precision DAC (=<10MSPS); DatasheetVersion: SBAS121; PackageVersion: 4040048/E, 12/2001; PackageReference: DL48; PackageDescription: 48-Pin Plastic Small Outline, Body 7.49 x 15.88 mm, Pitch 0.635 mm; Supplier 1: Digi-Key; Supplier Part Number 1: DAC7644E-ND; Supplier 2: Farnell; Supplier Part Number 2: 6536864; Supplier 3: Mouser; Supplier Part Number 3: 595-DAC7644E; Eco-Plan: Green (RoHS & no Sb/Br); INL(Max)(+/-LSB): 4; Mounting Technology: Surface Mount; Code_JEDEC: MO-118; ComponentLink1Description: Manufacturer URL; ComponentLink1URL: http://www.ti.com/; ComponentLink2Description: Datasheet; ComponentLink2URL: http://www.ti.com/general/docs/lit/getliterature.tsp?genericPartNumber=DAC7644&fileType=pdf; ComponentLink3Description: Package Specification; ComponentLink3URL: http://www.ti.com/lit/ml/msso001c/msso001c.pdf
footprint TI-DL48_N (SOP, 48-Leads, Body 15.88x7.49mm, Pitch 0.635mm, IPC Medium Density)
footprint TI-DL48_L (SOP, 48-Leads, Body 15.88x7.49mm, Pitch 0.635mm, IPC High Density)
footprint TI-DL48_M (SOP, 48-Leads, Body 15.88x7.49mm, Pitch 0.635mm, IPC Low Density)
part A pins: 1 DB15 (MSB) (io) "Data Bit 15, MSB", 2 DB14 (io) "Data Bit 14", 3 DB13 (io) "Data Bit 13", 4 DB12 (io) "Data Bit 12", 5 DB11 (io) "Data Bit 11", 6 DB10 (io) "Data Bit 10", 7 DB9 (io) "Data Bit 9", 8 DB8 (io) "Data Bit 8", 9 DB7 (io) "Data Bit 7", 10 DB6 (io) "Data Bit 6", 11 DB5 (io) "Data Bit 5", 12 DB4 (io) "Data Bit 4", 13 DB3 (io) "Data Bit 3", 14 DB2 (io) "Data Bit 2", 15 DB1 (io) "Data Bit 1", 16 DB0 (LSB) (io) "Data Bit 0, LSB", 17 RSTSEL (in) "Reset Select. Determines the action of RST. If HIGH, a RST command will set the DAC registers to mid-scale. If LOW, a RST command will set the DAC registers to zero.", 18 RST (in) "Reset, Rising Edge Triggered. Depending on the state of RSTSEL, the DAC registers are set to either mid-scale or zero.", 19 LOADDACS (in) "DAC Output Registers Load Control. Rising edge triggered.", 20 R/~{W} (in) "Enabled by the C\S\, Controls Data Read and Write from the Input Registers.", 21 A1 (in) "Enabled by the C\S\, in Combination With A0 Selects the Individual DAC Input Registers.", 22 A0 (in) "Enabled by the C\S\, in Combination With A1 Selects the Individual DAC Input Registers.", 23 ~{CS} (in) "Chip Select. Active LOW.", 24 DGND (power) "Digital Ground", 25 VDD (power) "Positive Power Supply (digital)", 26 VCC (power) "Positive Power Supply (analog)", 27 AGND (power) "Analog Ground", 28 VSS (power) "Negative Power Supply", 29 VOUTD (out) "DAC D Voltage Output", 30 VOUTD SENSE (in) "DAC D’s Output Amplifier Inverting Input. Used to close the feedback loop at the load.", 31 VREFL CD SENSE (in) "DAC C and D Reference Low Sense Input", 32 VREFL CD (in) "DAC C and D Reference Low Input", 33 VREFH CD (in) "DAC C and D Reference High Input", 34 VREFH CD SENSE (in) "DAC C and D Reference High Sense Input", 35 VOUTC (out) "DAC C Voltage Output", 36 VOUTC SENSE (in) "DAC C’s Output Amplifier Inverting Input. Used to close the feedback loop at the load.", 37 VOUTB (out) "DAC B Voltage Output", 38 VOUTB SENSE (in) "DAC B’s Output Amplifier Inverting Input. Used to close the feedback loop at the load.", 39 VREFH AB SENSE (in) "DAC A and B Reference High Sense Input", 40 VREFH AB (in) "DAC A and B Reference High Input", 41 VREFL AB (in) "DAC A and B Reference Low Input", 42 VREFL AB SENSE (in) "DAC A and B Reference Low Sense Input", 43 VOUTA (out) "DAC A Voltage Output", 44 VOUTA SENSE (in) "DAC A’s Output Amplifier Inverting Input. Used to close the feedback loop at the load."
part B pins: 45 NC "No Connection", 46 NC "No Connection", 47 NC "No Connection", 48 NC "No Connection"

## DAC7644E/1K
designator U?
16-Bit, Quad Voltage Output DAC, -40 to 85 degC, 48-pin SOP (DL48), Green (RoHS & no Sb/Br); Manufacturer: Texas Instruments; PartNumber: DAC7644E/1K; DAC Channels: 4; DNL(Max)(+/-LSB): 3; Interface: Parallel; Resolution(Bits): 16; Settling Time(us): 10; SubFamily: Precision DAC (=<10MSPS); DatasheetVersion: SBAS121; PackageVersion: 4040048/E, 12/2001; PackageReference: DL48; PackageDescription: 48-Pin Plastic Small Outline, Body 7.49 x 15.88 mm, Pitch 0.635 mm; Supplier 1: Digi-Key; Supplier Part Number 1: DAC7644E/1K-ND; Supplier 2: Mouser; Supplier Part Number 2: 595-DAC7644E/1K; Eco-Plan: Green (RoHS & no Sb/Br); INL(Max)(+/-LSB): 4; Mounting Technology: Surface Mount; Code_JEDEC: MO-118; ComponentLink1Description: Manufacturer URL; ComponentLink1URL: http://www.ti.com/; ComponentLink2Description: Datasheet; ComponentLink2URL: http://www.ti.com/general/docs/lit/getliterature.tsp?genericPartNumber=DAC7644&fileType=pdf; ComponentLink3Description: Package Specification; ComponentLink3URL: http://www.ti.com/lit/ml/msso001c/msso001c.pdf
footprint TI-DL48_N (SOP, 48-Leads, Body 15.88x7.49mm, Pitch 0.635mm, IPC Medium Density)
footprint TI-DL48_L (SOP, 48-Leads, Body 15.88x7.49mm, Pitch 0.635mm, IPC High Density)
footprint TI-DL48_M (SOP, 48-Leads, Body 15.88x7.49mm, Pitch 0.635mm, IPC Low Density)
part A pins: 1 DB15 (MSB) (io) "Data Bit 15, MSB", 2 DB14 (io) "Data Bit 14", 3 DB13 (io) "Data Bit 13", 4 DB12 (io) "Data Bit 12", 5 DB11 (io) "Data Bit 11", 6 DB10 (io) "Data Bit 10", 7 DB9 (io) "Data Bit 9", 8 DB8 (io) "Data Bit 8", 9 DB7 (io) "Data Bit 7", 10 DB6 (io) "Data Bit 6", 11 DB5 (io) "Data Bit 5", 12 DB4 (io) "Data Bit 4", 13 DB3 (io) "Data Bit 3", 14 DB2 (io) "Data Bit 2", 15 DB1 (io) "Data Bit 1", 16 DB0 (LSB) (io) "Data Bit 0, LSB", 17 RSTSEL (in) "Reset Select. Determines the action of RST. If HIGH, a RST command will set the DAC registers to mid-scale. If LOW, a RST command will set the DAC registers to zero.", 18 RST (in) "Reset, Rising Edge Triggered. Depending on the state of RSTSEL, the DAC registers are set to either mid-scale or zero.", 19 LOADDACS (in) "DAC Output Registers Load Control. Rising edge triggered.", 20 R/~{W} (in) "Enabled by the C\S\, Controls Data Read and Write from the Input Registers.", 21 A1 (in) "Enabled by the C\S\, in Combination With A0 Selects the Individual DAC Input Registers.", 22 A0 (in) "Enabled by the C\S\, in Combination With A1 Selects the Individual DAC Input Registers.", 23 ~{CS} (in) "Chip Select. Active LOW.", 24 DGND (power) "Digital Ground", 25 VDD (power) "Positive Power Supply (digital)", 26 VCC (power) "Positive Power Supply (analog)", 27 AGND (power) "Analog Ground", 28 VSS (power) "Negative Power Supply", 29 VOUTD (out) "DAC D Voltage Output", 30 VOUTD SENSE (in) "DAC D’s Output Amplifier Inverting Input. Used to close the feedback loop at the load.", 31 VREFL CD SENSE (in) "DAC C and D Reference Low Sense Input", 32 VREFL CD (in) "DAC C and D Reference Low Input", 33 VREFH CD (in) "DAC C and D Reference High Input", 34 VREFH CD SENSE (in) "DAC C and D Reference High Sense Input", 35 VOUTC (out) "DAC C Voltage Output", 36 VOUTC SENSE (in) "DAC C’s Output Amplifier Inverting Input. Used to close the feedback loop at the load.", 37 VOUTB (out) "DAC B Voltage Output", 38 VOUTB SENSE (in) "DAC B’s Output Amplifier Inverting Input. Used to close the feedback loop at the load.", 39 VREFH AB SENSE (in) "DAC A and B Reference High Sense Input", 40 VREFH AB (in) "DAC A and B Reference High Input", 41 VREFL AB (in) "DAC A and B Reference Low Input", 42 VREFL AB SENSE (in) "DAC A and B Reference Low Sense Input", 43 VOUTA (out) "DAC A Voltage Output", 44 VOUTA SENSE (in) "DAC A’s Output Amplifier Inverting Input. Used to close the feedback loop at the load."
part B pins: 45 NC "No Connection", 46 NC "No Connection", 47 NC "No Connection", 48 NC "No Connection"